# Altium footprint library digipot.PcbLib: 1 footprints
Each footprint in its own frame and in the unit in brackets; x right, y up, seen from the top. Pads: shape width x height; smd on the part's side, far side on the other; paste and mask are expansions set on the pad; w line width, h text height; cw(c..) or ccw(c..) is an arc to the next point about the centre after c.
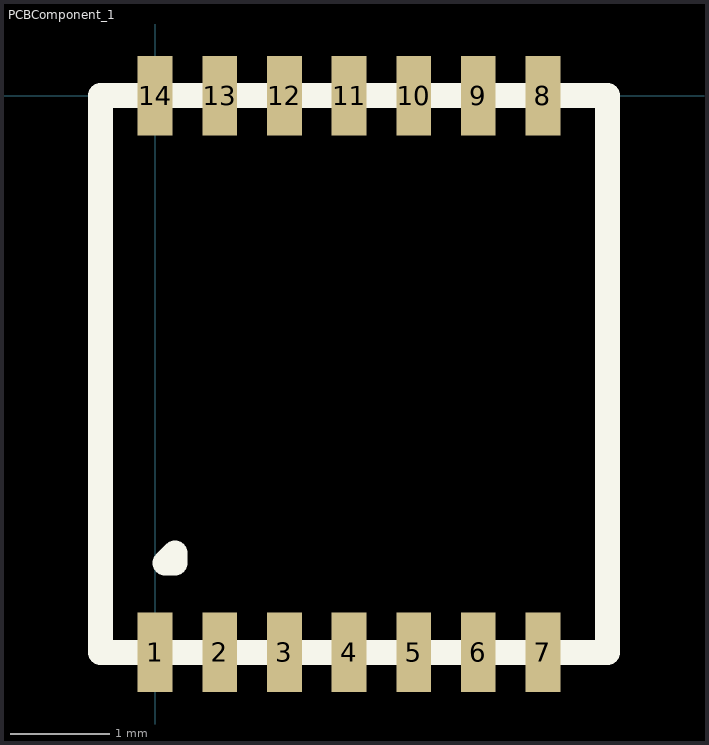
[diagram p0: the footprint, top view; thin cyan lines are the x and y axes]

## PCBComponent_1 [mm]
pads (14):
  rect 0.35x0.8 smd: 1(0,-5.6) 2(0.65,-5.6) 3(1.3,-5.6) 4(1.95,-5.6) 5(2.6,-5.6) 6(3.25,-5.6) 7(3.9,-5.6) 8(3.9,0) 9(3.25,0) 10(2.6,0) 11(1.95,0) 12(1.3,0) 13(0.65,0) 14(0,0)
Top Overlay:
  lines w0.254: -0.55,-5.6 -0.55,0 4.55,0 4.55,-5.6 -0.55,-5.6 ; 0.1,-4.7 0.2,-4.6 0.2,-4.7 0.1,-4.7